# Altium footprint library PCB - POWER MODULE - MURATA NXJ1.PCBLIB: 1 footprints
Each footprint in its own frame and in the unit in brackets; x right, y up, seen from the top. Pads: shape width x height; smd on the part's side, far side on the other; paste and mask are expansions set on the pad; w line width, h text height; cw(c..) or ccw(c..) is an arc to the next point about the centre after c.
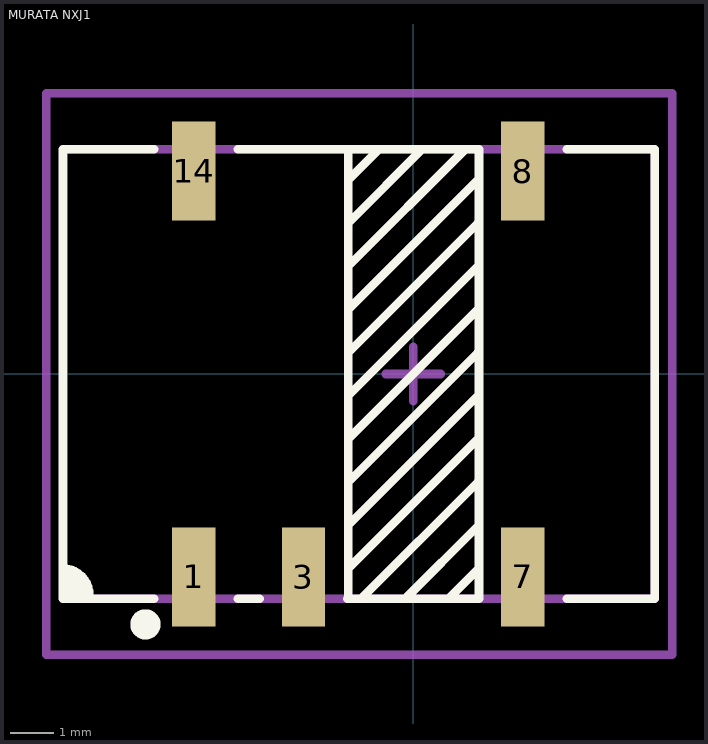
[diagram p0: the footprint, top view; thin cyan lines are the x and y axes]

## MURATA NXJ1 [mm]
height 4.7
pads (5):
  rect 1x2.3 smd: 1(-5.08,-4.7) 3(-2.54,-4.7) 7(2.54,-4.7) 8(2.54,4.7) 14(-5.08,4.7)
Top Overlay:
  circle w0.5: c-6.2,-5.8 r0.1
  region: -7.5,-5.207 -7.5,-4.9 -7.9,-4.5 -8.12,-4.5 -8.12,-5.207
  lines w0.2: -8.12,-4.5 cw(c-8.12,-5.12) -7.5,-5.12 ; -6,-5.207 -8.12,-5.207 -8.12,5.207 -6,5.207 ; -4.064,-5.207 -3.556,-5.207 ; -4.064,5.207 1.524,5.207 ; -1.5,-4.5 1.5,-1.5 ; -1.5,-3.5 1.5,-0.5 ; -1.5,-2.5 1.5,0.5 ; -1.5,-1.5 1.5,1.5 ; -1.5,-0.5 1.5,2.5 ; -1.5,0.5 1.5,3.5 ; -1.5,1.5 1.5,4.5 ; -1.5,2.5 1.207,5.207 ; -1.5,3.5 0.207,5.207 ; -1.5,4.5 -0.793,5.207 ; -1.5,5.207 -1.5,-5.207 -1.524,-5.207 1.524,-5.207 1.524,5.207 ; -1.207,-5.207 1.5,-2.5 ; -0.183,-5.207 1.524,-3.5 ; 0.817,-5.207 1.524,-4.5 ; 1.524,5.024 1.524,5.207 ; 3.556,-5.207 5.6,-5.207 5.6,5.207 3.556,5.207
Mechanical 1:
  lines w0.2: -8.1,-5.207 -8.1,5.207 5.6,5.207 5.6,-5.207 -8.1,-5.207
Mechanical 15:
  lines w0.2: -0.635,0 0.635,0 ; 0,-0.635 0,0.635 ; -8.5,-6.5 -8.5,6.5 6,6.5 6,-6.5 -8.5,-6.5
3D body "Murata NXJ1.STEP": height 4.22, standoff 0, extent -8.128,-5.232 5.588,5.232